# Altium schematic symbol library TM1620.Schlib: 1 symbol
Pins are listed as number, name and electrical type; pins without a type are passive.

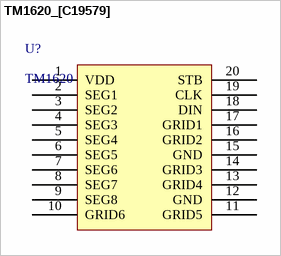
[diagram p0: symbol TM1620_[C19579]]

## TM1620_[C19579]
designator U?, comment TM1620
LED驱动
footprint SOIC-20_300mil
pins: 1 VDD, 2 SEG1, 3 SEG2, 4 SEG3, 5 SEG4, 6 SEG5, 7 SEG6, 8 SEG7, 9 SEG8, 10 GRID6, 11 GRID5, 12 GND, 13 GRID4, 14 GRID3, 15 GND, 16 GRID2, 17 GRID1, 18 DIN, 19 CLK, 20 STB